# Altium schematic symbol library SMLP14BCNWT86.SchLib: 1 symbol
Pins are listed as number, name and electrical type; pins without a type are passive.

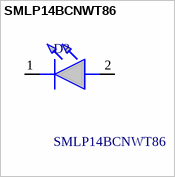
[diagram p0: symbol SMLP14BCNWT86]

## SMLP14BCNWT86
designator D?
Blue 470nm LED Indication - Discrete 2.9V 0402 (1005 Metric); Manufacturer_Name: ROHM Semiconductor; Geometry.Height: 0.25mm; Mouser Part Number: *; Mouser Price/Stock: *; Manufacturer_Part_Number: SMLP14BCNWT86; Datasheet Link: https://fscdn.rohm.com/en/products/databook/datasheet/opto/led/chip_mono/smlp14bcnwt86-e.pdf
footprint SMLP14BCNWT86
pins: 1 K, 2 A